# Altium footprint library RLC.PcbLib: 40 footprints (part 3 of 3)
Each footprint in its own frame and in the unit in brackets; x right, y up, seen from the top. Pads: shape width x height; smd on the part's side, far side on the other; paste and mask are expansions set on the pad; w line width, h text height; cw(c..) or ccw(c..) is an arc to the next point about the centre after c.
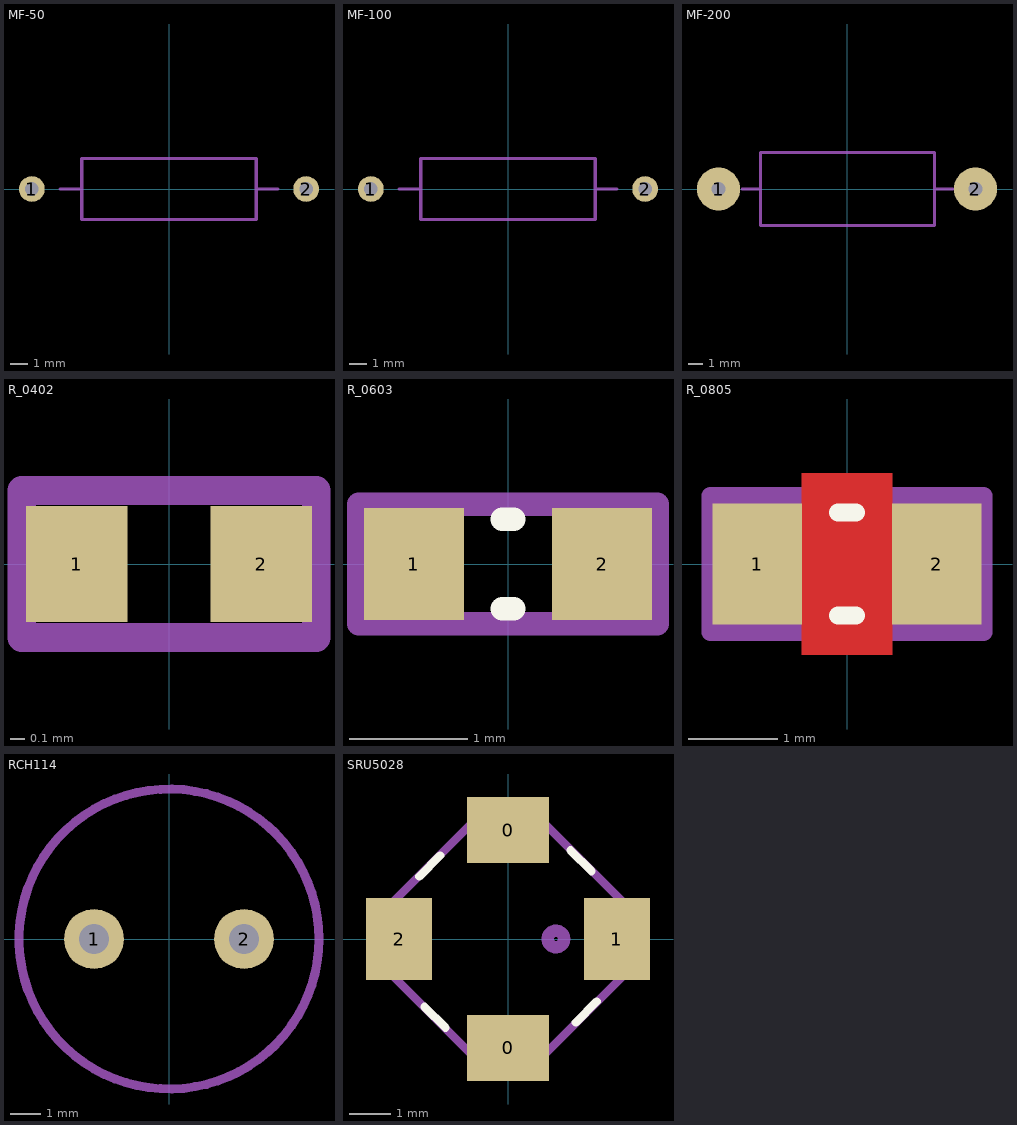
[diagram p2: the footprints below, top view; thin cyan lines are the x and y axes]

## MF-50 [mm]
pads (2):
  round 1.5 hole 0.8: 1(-8.001,0) 2(8.001,0)
Mechanical 13:
  lines w0.2: -6.35,0 -5.08,0 ; 5.08,0 6.35,0 ; -5.08,-1.778 5.08,-1.778 5.08,1.778 -5.08,1.778 -5.08,-1.778
  text ".Designator" at -4.699,-0.508 h2.5
3D body: height 4.6, standoff -2.6, extent -8.255,-2.1 8.345,2.1

## MF-100 [mm]
pads (2):
  round 1.5 hole 0.8: 1(-8.001,0) 2(8.001,0)
Mechanical 13:
  lines w0.2: -6.35,0 -5.08,0 ; 5.08,0 6.35,0 ; -5.08,-1.778 5.08,-1.778 5.08,1.778 -5.08,1.778 -5.08,-1.778
  text ".Designator" at -4.699,-0.508 h2.5
3D body: height 4.6, standoff -2.6, extent -8.255,-2.1 8.345,2.1

## MF-200 [mm]
pads (2):
  round 3 hole 1: 1(-8.954,0) 2(8.954,0)
Mechanical 13:
  lines w0.2: -7.302,0 -6.032,0 ; 6.096,0 7.366,0 ; -6.032,-2.54 6.096,-2.54 6.096,2.54 -6.032,2.54 -6.032,-2.54
  text ".Designator" at -5.651,-0.508 h2.5
3D body: height 7.3, standoff -2.3, extent -9.335,-3.3 9.265,3.3

## R_0402 [mm] "Chip Resistor, 2-Leads, Body 1,1x0,5mm, IPC Medium Density"
height 0.35
pads (2):
  rect 0.7x0.8 smd: 1(-0.635,0) 2(0.635,0)
Mechanical 13:
  lines w0.2: -1.016,-0.508 1.016,-0.508 1.016,0.508 -1.016,0.508 -1.016,-0.508
  text ".Designator" at -0.787,-0.305 h1
3D body: height 0.4, standoff 0, extent -0.525,-0.254 0.525,0.286

## R_0603 [mm] "Chip Resistor, 2-Leads, Body 1,6x0,8mm, IPC Medium Density"
height 0.9
pads (2):
  rect 0.85x0.95 smd: 1(-0.8,0) 2(0.8,0)
Top Overlay:
  lines w0.2: -0.051,-0.381 0.051,-0.381 ; -0.051,0.381 0.051,0.381
Mechanical 13:
  lines w0.2: -1.27,-0.508 -1.27,0.508 1.27,0.508 1.27,-0.508 -1.27,-0.508
  text ".Designator" at -1.016,-0.305 h1
3D body: height 0.6, standoff 0, extent -0.8,-0.413 0.8,0.413

## R_0805 [mm] "Chip Resistor, 2-Leads, Body 2,0x1,3mm, IPC Medium Density"
height 1.6
pads (2):
  rect 1x1.35 smd: 1(-1,0) 2(1,0)
Top Layer:
  pour cut-out: -0.508,1.016 0.508,1.016 0.508,-1.016 -0.508,-1.016
Top Overlay:
  lines w0.2: -0.1,-0.575 0.1,-0.575 ; -0.1,0.575 0.1,0.575
Mechanical 13:
  lines w0.2: -1.524,-0.762 -1.524,0.762 1.524,0.762 1.524,-0.762 -1.524,-0.762
  text ".Designator" at -1.016,-0.508 h1.5
3D body: height 0.65, standoff 0, extent -1,-0.635 1,0.615

## RCH114 [mm]
pads (2):
  round 2 hole 1: 1(-2.5,0) 2(2.5,0)
Mechanical 13:
  circle w0.3: c0,0 r5
  text ".Designator" at -2.349,1.575 h2.5
3D body: height 14, standoff 0, extent -5.01,-5.01 5.01,5.01

## SRU5028 [mm]
height 3
pads (4):
  rect 2x1.6 smd: 0(0,-2.65) 0(0,2.65)
  rect 1.6x2 smd: 1(2.65,0) 2(-2.65,0)
Top Overlay:
  lines w0.2: -2.159,1.524 -1.651,2.032 ; -2.032,-1.651 -1.524,-2.159 ; 1.524,2.159 2.032,1.651 ; 1.651,-2.032 2.159,-1.524
Mechanical 13:
  circle w0.3: c1.166,0 r0.201
  lines w0.2: -2.794,-0.9 -2.794,0.9 -0.9,2.794 0.9,2.794 2.794,0.9 2.794,-0.9 0.9,-2.794 -0.9,-2.794 -2.794,-0.9
  text ".Designator" at -1.143,-1.016 h2.5
3D body: height 3, standoff 0, extent -2.795,-2.795 2.795,2.795
3D body: height 3.1, standoff 3, extent 1.52,-0.258 2.036,0.258